# Altium footprint library Inverters.PcbLib: 1 footprints
Each footprint in its own frame and in the unit in brackets; x right, y up, seen from the top. Pads: shape width x height; smd on the part's side, far side on the other; paste and mask are expansions set on the pad; w line width, h text height; cw(c..) or ccw(c..) is an arc to the next point about the centre after c.
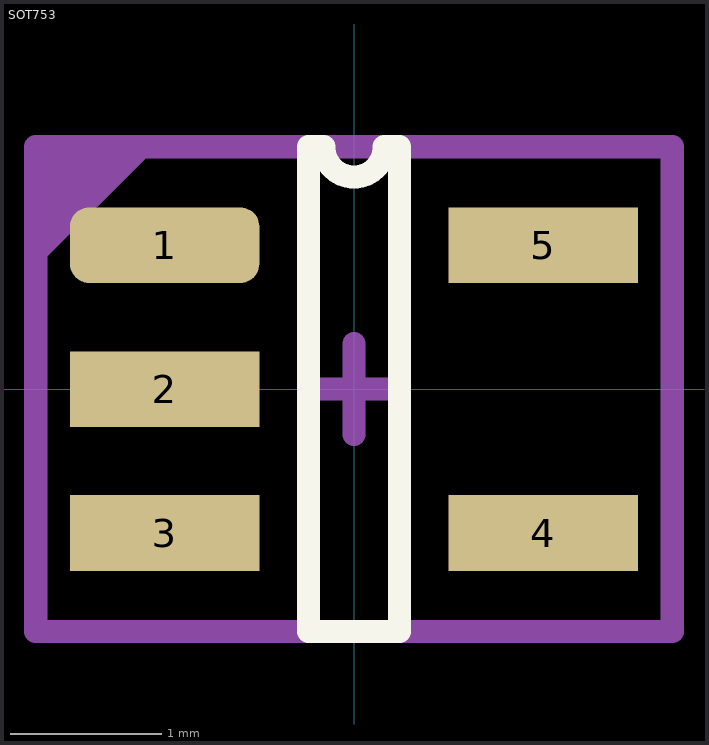
[diagram p0: the footprint, top view; thin cyan lines are the x and y axes]

## SOT753 [mm]
pads (5):
  rrect50% 1.25x0.5 smd: 1(-1.25,0.95)
  rect 1.25x0.5 smd: 2(-1.25,0) 3(-1.25,-0.95) 4(1.25,-0.95) 5(1.25,0.95)
Top Overlay:
  lines w0.153: -0.3,-1.6 0.3,-1.6 0.3,1.6 0.2,1.6 cw(c0,1.6) -0.2,1.6 -0.3,1.6 -0.3,-1.6
Top Assembly:
  region: -2.1,1.6 -2.1,0.8 -1.3,1.6
  lines w0.1: -2.1,-1.6 2.1,-1.6 2.1,1.6 -2.1,1.6 -2.1,-1.6
  text "'.Designator'" at -4.532,-0.333 h0.8
Top Courtyard (Mech6):
  lines w0.153: -0.3,0 0.3,0 ; 0,-0.3 0,0.3 ; -2.1,-1.6 2.1,-1.6 2.1,1.6 -2.1,1.6 -2.1,-1.6
3D body "74LVC1G04GV,125.stp": height 1, standoff 0, extent -1.392,-1.475 1.397,1.475